# Altium footprint library PcbLib_R0805.PcbLib: 1 footprints
Each footprint in its own frame and in the unit in brackets; x right, y up, seen from the top. Pads: shape width x height; smd on the part's side, far side on the other; paste and mask are expansions set on the pad; w line width, h text height; cw(c..) or ccw(c..) is an arc to the next point about the centre after c.
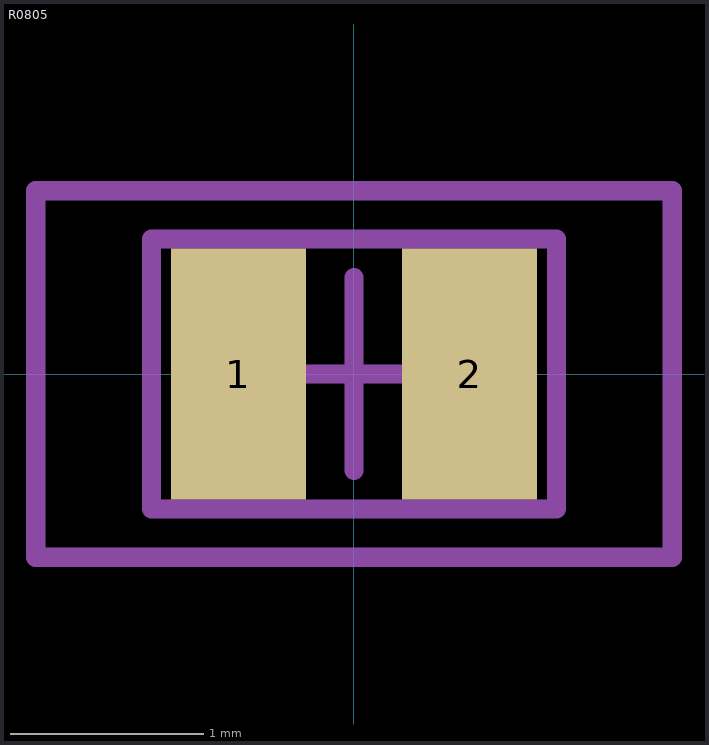
[diagram p0: the footprint, top view; thin cyan lines are the x and y axes]

## R0805 [mm]
pads (2):
  rect 0.7x1.3 smd: 1(-0.6,0) 2(0.6,0)
Top Layer:
  text "String" at -1.805,1.037 h0.52
Mechanical 13:
  lines w0.1: -1.05,-0.7 1.05,-0.7 1.05,0.7 -1.05,0.7 -1.05,-0.7
Mechanical 15:
  lines w0.1: -0.5,0 0.5,0 ; 0,-0.5 0,0.5 ; -1.65,-0.95 1.65,-0.95 1.65,0.95 -1.65,0.95 -1.65,-0.95
3D body: height 0.45, standoff 0, extent 0.65,-0.7 1.05,0.7
3D body: height 0.45, standoff 0, extent -1.05,-0.7 -0.65,0.7
3D body: height 0.45, standoff 0, extent -0.65,-0.7 0.65,0.7